# EAGLE library part 74*166 (library 74ttl-din)
8-bit parallel load SHIFT REGISTER
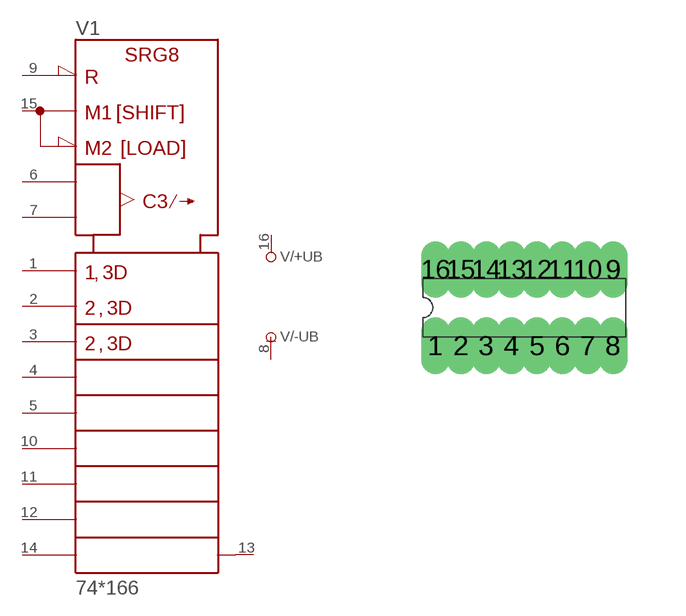
[diagram p54: symbol with the pads of DIL16; footprint DIL16]

Designator prefix V; gates /+UB=+UB /-UB=-UB 1=166

## 74166N  [DIL16]
1  1:SER  in
2  1:A  in
3  1:B  in
4  1:C  in
5  1:D  in
6  1:CLK_INH  in
7  1:CLK  in
8  /-UB:-UB  pwr
9  1:!CLR  in
10  1:E  in
11  1:F  in
12  1:G  in
13  1:QH  out
14  1:H  in
15  1:SH/!LD  in
16  /+UB:+UB  pwr

## Footprint DIL16 (pad centres in mm)
Dual In Line Package
drill 0.203 long: 1 -2.223,-0.953; 2 -1.587,-0.953; 3 -0.953,-0.953; 4 -0.318,-0.953; 5 0.318,-0.953; 6 0.953,-0.953; 7 1.587,-0.953; 8 2.223,-0.953; 9 2.223,0.953; 10 1.587,0.953; 11 0.953,0.953; 12 0.318,0.953; 13 -0.318,0.953; 14 -0.953,0.953; 15 -1.587,0.953; 16 -2.223,0.953